# Altium schematic symbol library CMP-057-000000-3.Schlib: 1 symbol
Pins are listed as number, name and electrical type; pins without a type are passive.

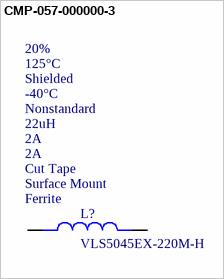
[diagram p0: symbol CMP-057-000000-3]

## CMP-057-000000-3
designator L?, comment VLS5045EX-220M-H  value 22uH  Core Material: Ferrite  Mounting Technology: Surface Mount  Packaging: Cut Tape  Saturation Current: 2A  Case/Package: Nonstandard  Min Operating Temperature: -40°C  Shielding: Shielded  Max Operating Temperature: 125°C  Tolerance: 20%
Inductor Power Shielded Wirewound 22uH 20% 100KHz Ferrite 1.8A 0.1625Ohm DCR Automotive T/R; MF: TDK Corporation; MP: VLS5045EX-221M-H; DC Resistance (DCR): 162.5mR; Ratings: AEC-Q200; Length: 5mm; Test Frequency: 100kHz; Width: 5.3mm; Pin Count: 2; Price: None; Series: VLS-EX-H; Design Item ID: VLS5045EX-221M-H; Component Type: Standard; Package: NON STANDARD-2 TDK; Current Rating: 2A
footprint IND_VLS5045EX-221M-H
footprint IND_VLS5045EX-221M-H
pins: 1, 2